# EAGLE library part MAX9830AETA+ (library CYCFI_semicon)
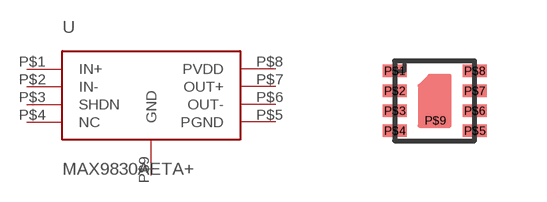
[diagram p6: symbol with the pads of TDFN-8; footprint TDFN-8]

Designator prefix -

## MAX9830AETA+  [TDFN-8]
P$1  IN+
P$2  IN-
P$3  SHDN
P$4  NC
P$5  PGND
P$6  OUT-
P$7  OUT+
P$8  PVDD
P$9  GND

## Footprint TDFN-8 (pad centres in mm)
smd 0.61 x 0.305: P$1 0,1.75; P$2 0,1.25; P$3 0,0.75; P$4 0,0.25; P$5 2,0.25; P$6 2,0.75; P$7 2,1.25; P$8 2,1.75; P$9 1.016,0.508